# Altium footprint library Quectel_M25_PCB_Footprint_Protel_V1.0.PcbLib: 1 footprints
Each footprint in its own frame and in the unit in brackets; x right, y up, seen from the top. Pads: shape width x height; smd on the part's side, far side on the other; paste and mask are expansions set on the pad; w line width, h text height; cw(c..) or ccw(c..) is an arc to the next point about the centre after c.
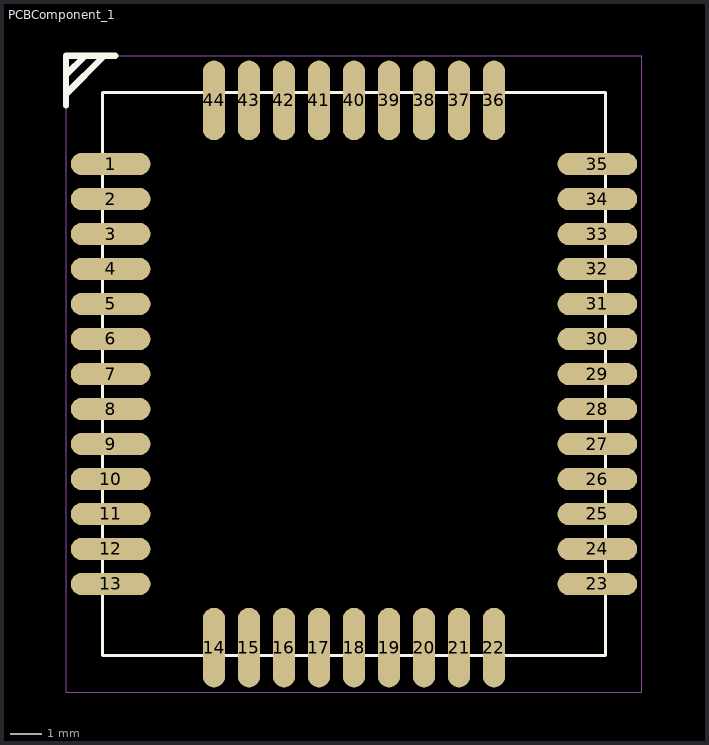
[diagram p0: the footprint, top view; thin cyan lines are the x and y axes]

## PCBComponent_1 [mm]
pads (44):
  oval 2.5x0.7 smd mask+0.05: 1(933.039,1022.473) 2(933.039,1021.373) 3(933.039,1020.273) 4(933.039,1019.173) 5(933.039,1018.073) 6(933.039,1016.973) 7(933.039,1015.873) 8(933.039,1014.773) 9(933.039,1013.673) 10(933.039,1012.573) 11(933.039,1011.473) 12(933.039,1010.373) 13(933.039,1009.273) 23(948.339,1009.273) 24(948.339,1010.373) 25(948.339,1011.473) 26(948.339,1012.573) 27(948.339,1013.673) 28(948.339,1014.773) 29(948.339,1015.873) 30(948.339,1016.973) 31(948.339,1018.073) 32(948.339,1019.173) 33(948.339,1020.273) 34(948.339,1021.373) 35(948.339,1022.473)
  oval 0.7x2.5 smd mask+0.05: 14(936.289,1007.273) 15(937.389,1007.273) 16(938.489,1007.273) 17(939.589,1007.273) 18(940.689,1007.273) 19(941.789,1007.273) 20(942.889,1007.273) 21(943.989,1007.273) 22(945.089,1007.273) 36(945.089,1024.473) 37(943.989,1024.473) 38(942.889,1024.473) 39(941.789,1024.473) 40(940.689,1024.473) 41(939.589,1024.473) 42(938.489,1024.473) 43(937.389,1024.473) 44(936.289,1024.473)
Top Overlay:
  lines w0.1: 932.789,1007.023 948.589,1007.023 948.589,1024.723 932.789,1024.723 932.789,1007.023
  lines w0.2: 931.639,1024.323 931.639,1025.873 933.189,1025.873 ; 931.639,1024.673 932.839,1025.873 ; 931.639,1025.273 932.239,1025.873
Mechanical 1:
  lines w0.01: 931.639,1005.873 949.739,1005.873 949.739,1025.873 931.639,1025.873 931.639,1005.873